# Altium schematic symbol library MMZ1608B601CTAH0.SchLib: 1 symbol
Pins are listed as number, name and electrical type; pins without a type are passive.

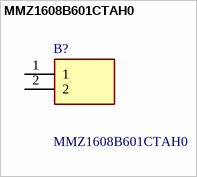
[diagram p0: symbol MMZ1608B601CTAH0]

## MMZ1608B601CTAH0
designator B?
TDK - MMZ1608B601CTAH0 - FERRITE BEAD, 600 OHM, 500mA, 0603 , FULL REEL; Geometry.Height: 0.95mm; Mouser Part Number: 810-MMZ1608B601CTAH0; Mouser Price/Stock: https://www.mouser.co.uk/ProductDetail/TDK/MMZ1608B601CTAH0?qs=8Kz9Wu9QwqX2rZ3grlLL0Q%3D%3D; Manufacturer_Name: TDK; Manufacturer_Part_Number: MMZ1608B601CTAH0; Datasheet Link: https://product.tdk.com/system/files/dam/doc/product/emc/emc/beads/catalog/beads_commercial_signal_mmz1608_en.pdf
footprint BEADC1608X95N
pins: 1, 2